# EAGLE library part NFET_2 (library Transistors)
MOSFET (Dual independent)
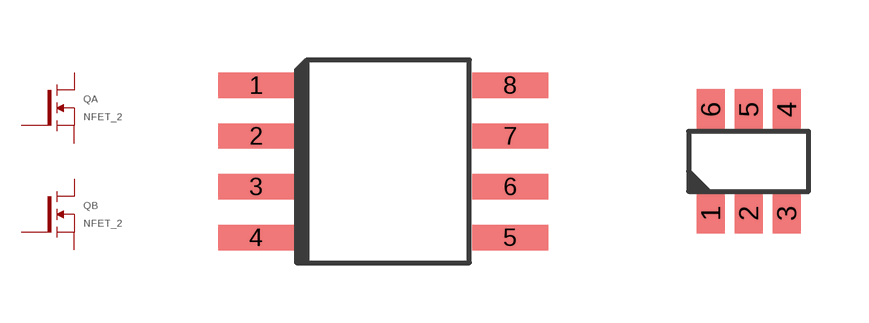
[diagram p0: symbol with the pads of 8SOP_4.4MM; footprints 8SOP_4.4MM, SOT23-6]

Designator prefix Q; gates A=NFET B=NFET

## NFET_28SOP_4.4MM  [8SOP_4.4MM]
1  B:S
2  B:G
3  A:S
4  A:G
5  A:D
6  A:D
7  B:D
8  B:D

## NFET_2SOT23-6  [SOT23-6]
1  A:G
2  B:S
3  B:G
4  B:D
5  A:S
6  A:D

## Footprint 8SOP_4.4MM (pad centres in mm)
smd 1.905 x 0.635: 1 -3.175,1.905; 2 -3.175,0.635; 3 -3.175,-0.635; 4 -3.175,-1.905; 5 3.175,-1.905; 6 3.175,-0.635; 7 3.175,0.635; 8 3.175,1.905

## Footprint SOT23-6 (pad centres in mm)
smd 0.7 x 1: 1 -0.95,-1.3; 2 0,-1.3; 3 0.95,-1.3; 4 0.95,1.3; 5 0,1.3; 6 -0.95,1.3